# EAGLE library part ULTIMATE_GPS (library open_hw_sockets)
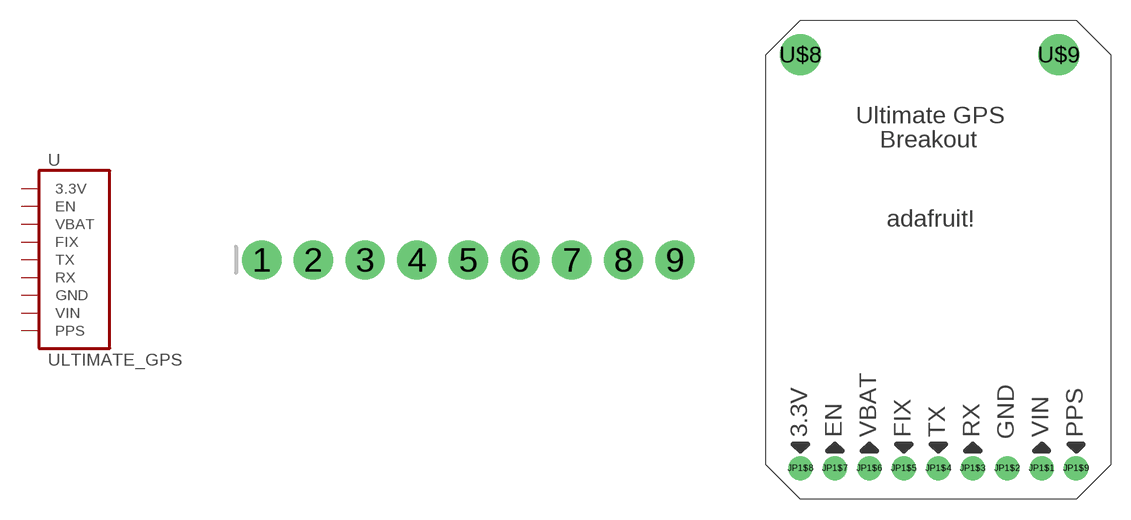
[diagram p4: symbol with the pads of ULTIMATE_GPS; footprints ULTIMATE_GPS, TEST_GPS]

Designator prefix -

## ULTIMATE_GPS  [ULTIMATE_GPS]
1  3.3V  pwr
2  EN  in
3  VBAT  pwr
4  FIX  out
5  TX  out
6  RX  in
7  GND  pwr
8  VIN  pwr
9  PPS  out

## ULTIMATE_GPSTEST  [TEST_GPS]
JP1$1  VIN  pwr
JP1$2  GND  pwr
JP1$3  RX  in
JP1$4  TX  out
JP1$5  FIX  out
JP1$6  VBAT  pwr
JP1$7  EN  in
JP1$8  3.3V  pwr
JP1$9  PPS  out
U$8  GND  pwr
U$9  GND  pwr

## Footprint ULTIMATE_GPS (pad centres in mm)
drill 1 pad 1.93: 1 -6.35,0; 2 -3.81,0; 3 -1.27,0; 4 1.27,0; 5 3.81,0; 6 6.35,0; 7 8.89,0; 8 11.43,0; 9 13.97,0

## Footprint TEST_GPS (pad centres in mm)
drill 0.8 pad 1.778: JP1$1 20.32,2.286; JP1$2 17.78,2.286; JP1$3 15.24,2.286; JP1$4 12.7,2.286; JP1$5 10.16,2.286; JP1$6 7.62,2.286; JP1$7 5.08,2.286; JP1$8 2.54,2.286; JP1$9 22.86,2.286
drill 0.8 pad 3: U$8 2.54,32.782; U$9 21.59,32.782